# Altium schematic symbol library MMBT5551LT1G.SchLib: 1 symbol
Pins are listed as number, name and electrical type; pins without a type are passive.

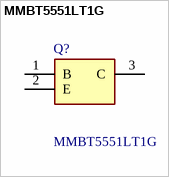
[diagram p0: symbol MMBT5551LT1G]

## MMBT5551LT1G
designator Q?
Miniature SOT-23 Surface Mount Package Saves Board Space; S Prefix for Automotive and Other Applications Requiring Unique Site and Control Change Requirements; AEC-Q101 Qualified and PPAP Capable; Manufacturer_Name: onsemi; Geometry.Height: 1.11mm; Mouser Part Number: 863-MMBT5551LT1G; Mouser Price/Stock: https://www.mouser.co.uk/ProductDetail/onsemi/MMBT5551LT1G?qs=HVbQlW5zcXXlUyy8htIqAQ%3D%3D; Manufacturer_Part_Number: MMBT5551LT1G; Datasheet Link: https://www.onsemi.com/pub/Collateral/MMBT5550LT1-D.PDF
footprint SOT96P237X111-3N
pins: 1 B, 2 E, 3 C